# Altium schematic symbol library SMD-Symbols.SchLib: 42 symbols (part 3 of 3)
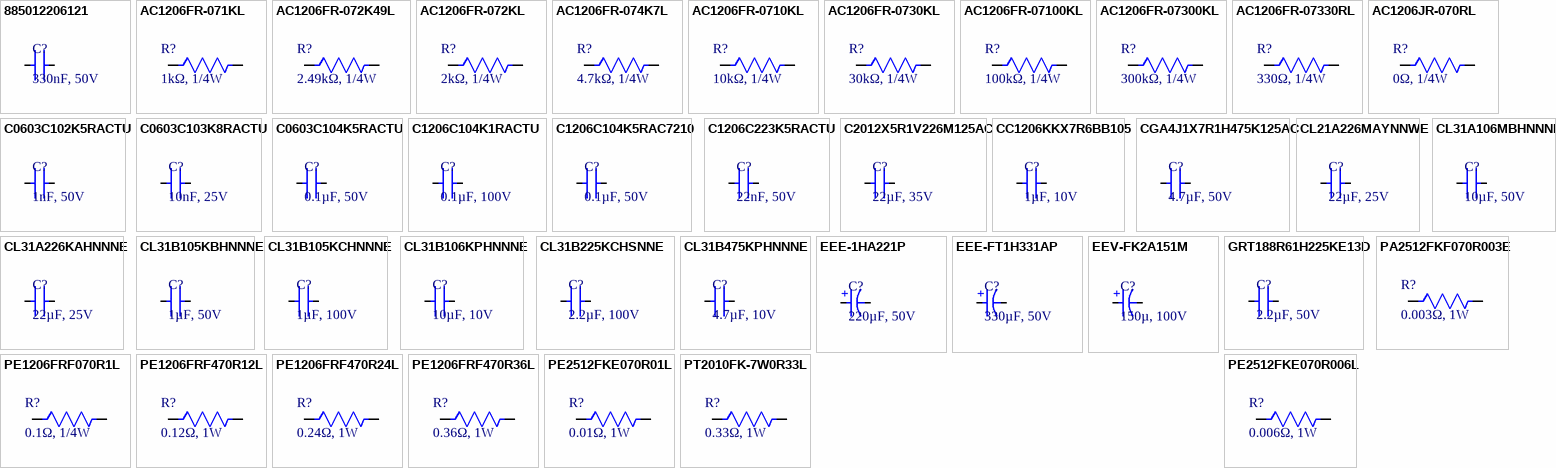
[diagram p3: symbols 885012206121 to PT2010FK-7W0R33L]

## PT2010FK-7W0R33L
designator R?, comment 0.33Ω, 1W
RES 0.33 OHM 1% 1W 2010; Manufacturer: Yageo Group; Manufacturer Part Number: PT2010FK-7W0R33L; Value: 330mΩ; Temperature Coefficient: 75ppm/°C; Working Voltage: 574mV; Supplier: DigiKey; Supplier Part Number: 311-0.33AQCT-ND; RoHS: Compliant; Category: Chip SMD Resistors; Stock: 8987; Pricing: 1=0.64, 10=0.417, 25=0.3544, 50=0.3154, 100=0.2823, 250=0.24588, 500=0.22308, 1000=0.20371 (USD); Case/Package: 2010; China RoHS: Non-Compliant; Height: 550µm; Lead Free: Lead Free; Lifecycle Status: Production; Max Operating Temperature: 155°C; Min Operating Temperature: -55°C; Mounting Technology: Surface Mount; Number of Terminals: 2; Power Dissipation: 1W; REACH SVHC: Yes; Schedule B: 8533210045, 8533210045|8533210045|8533210045|8533210045|8533210045; Tolerance: 1%; Width: 2.5mm; ComponentLink1URL: https://datasheet.octopart.com:443/PT2010FK-7W0R33L-Yageo-datasheet-182189530.pdf?src-supplier=IHS; ComponentLink1Description: https://datasheet.octopart.com:443/PT2010FK-7W0R33L-Yageo-datasheet-182189530.pdf?src-supplier=IHS; ComponentLink2URL: https://datasheet.octopart.com:443/PT2010FK-7W0R33L-Yageo-datasheet-137700561.pdf?src-supplier=Farnell; ComponentLink2Description: https://datasheet.octopart.com:443/PT2010FK-7W0R33L-Yageo-datasheet-137700561.pdf?src-supplier=Farnell; ComponentLink3URL: https://datasheet.octopart.com:443/PT2010FK-7W0R33L-Yageo-Group-datasheet-190382415.pdf?src-supplier=Farnell; ComponentLink3Description: https://datasheet.octopart.com:443/PT2010FK-7W0R33L-Yageo-Group-datasheet-190382415.pdf?src-supplier=Farnell; ComponentLink4URL: https://datasheet.octopart.com:443/PT2010FK-7W0R33L-Yageo-datasheet-128681935.pdf?src-supplier=X-ON; ComponentLink4Description: https://datasheet.octopart.com:443/PT2010FK-7W0R33L-Yageo-datasheet-128681935.pdf?src-supplier=X-ON; ComponentLink5URL: https://datasheet.octopart.com/PT2010FK-7W0R33L-Yageo-datasheet-86814862.pdf; ComponentLink5Description: https://datasheet.octopart.com/PT2010FK-7W0R33L-Yageo-datasheet-86814862.pdf; ComponentLink6URL: https://datasheet.octopart.com:443/PT2010FK-7W0R33L-Yageo-datasheet-14431055.pdf?src-supplier=Factory+Futures; ComponentLink6Description: https://datasheet.octopart.com:443/PT2010FK-7W0R33L-Yageo-datasheet-14431055.pdf?src-supplier=Factory+Futures; ComponentLink7URL: http://sigma.octopart.com:80/conflict_mineral_statement/Yageo-company-3.pdf?src-supplier=Compliance+Statements; ComponentLink7Description: http://sigma.octopart.com:80/conflict_mineral_statement/Yageo-company-3.pdf?src-supplier=Compliance+Statements; ComponentLink8URL: http://sigma.octopart.com:80/rohs_statement/Yageo-company-2.pdf?src-supplier=Compliance+Statements; ComponentLink8Description: http://sigma.octopart.com:80/rohs_statement/Yageo-company-2.pdf?src-supplier=Compliance+Statements
footprint RES-2010
pins: 1, 2

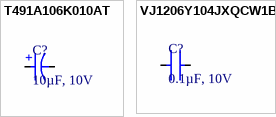
[diagram p1: symbols T491A106K010AT to VJ1206Y104JXQCW1BC]

## T491A106K010AT
designator C?, comment 10µF, 10V
CAP TANT 10UF 10% 10V 1206; Manufacturer: KEMET; Manufacturer Part Number: T491A106K010AT; Dielectric Material: Tantalum; Polarity: Polarized; ESR (Equivalent Series Resistance): 4R; Leakage Current: 1uA; Ripple Current: 54.8mA; Tan Delta: 0.06; Supplier: Digikey; Supplier Part Number: 399-3684-1-ND; RoHS: Yes; Category: Tantalum Capacitors; Stock: 1464158; Pricing: 1=0.32, 10=0.209, 50=0.154, 100=0.1255, 500=0.09904, 1000=0.08364 (USD); Mounting Technology: Surface Mount; Pins: 2; Package Shape: Rectangular; Case/Package: 1206; Terminal Finish: Tin; Min Operating Temperature: -55°C; Max Operating Temperature: 125°C; JESD-609 Code: e3; Value: 10uF; Capacitor Type: Tantalum; Tolerance  (fill in as +-): 10%; Package Style: SMTMeter; Packaging: Tape and Reel; Tolerance (fill in as +-): 10%; Rated DC Voltage (URdc): 10V; Termination: J BEND; Length: 3.2mm; Width: 1.6mm; Height: 1.6mm; Reach SVHC Compliant: Yes; RoHS Compliant: Yes; ComponentLink1URL: https://datasheet.ciiva.com:443/pdfs/VipMasterIC/IC/KEME/KEME-S-A0009782355/KEME-S-A0009782355-1.pdf?src-supplier=IHS+Markit; ComponentLink1Description: https://datasheet.ciiva.com:443/pdfs/VipMasterIC/IC/KEME/KEME-S-A0009782355/KEME-S-A0009782355-1.pdf?src-supplier=IHS+Markit; ComponentLink2URL: https://datasheet.ciiva.com/27052/1573249-27052559.pdf?src-supplier=Jameco; ComponentLink2Description: https://datasheet.ciiva.com/27052/1573249-27052559.pdf?src-supplier=Jameco; ComponentLink3URL: https://datasheet.ciiva.com/257/kem-t2005-t491-257584.pdf?src-supplier=Digikey; ComponentLink3Description: https://datasheet.ciiva.com/257/kem-t2005-t491-257584.pdf?src-supplier=Digikey; ComponentLink4URL: https://datasheet.ciiva.com/257/kem-t2005-t491-257585.pdf?src-supplier=Digikey; ComponentLink4Description: https://datasheet.ciiva.com/257/kem-t2005-t491-257585.pdf?src-supplier=Digikey; ComponentLink5URL: https://datasheet.ciiva.com/257/kem-t2005-t491-257586.pdf?src-supplier=Digikey; ComponentLink5Description: https://datasheet.ciiva.com/257/kem-t2005-t491-257586.pdf?src-supplier=Digikey; ComponentLink6URL: https://datasheet.ciiva.com/14586/70095774-14586699.pdf?src-supplier=Allied+Electronics; ComponentLink6Description: https://datasheet.ciiva.com/14586/70095774-14586699.pdf?src-supplier=Allied+Electronics; ComponentLink7URL: https://datasheet.ciiva.com/29244/458293-da-01-en-kondensator-10uf-3216-10pr-10v-85c-29244583.pdf?src-supplier=Conrad; ComponentLink7Description: https://datasheet.ciiva.com/29244/458293-da-01-en-kondensator-10uf-3216-10pr-10v-85c-29244583.pdf?src-supplier=Conrad
footprint CAP-TAN-1206
pins: 1, 2
text: +

## VJ1206Y104JXQCW1BC
designator C?, comment 0.1µF, 10V
CAP CER 0.1UF 10V X7R 1206; Manufacturer: Vishay Vitramon; Manufacturer Part Number: VJ1206Y104JXQCW1BC; Manufacturer Series: VJ; Dielectric Material: Ceramic; Value: 100nF; Multilayer: Yes; Tolerance  (fill in as +-): 5%; Supplier: Digikey; Supplier Part Number: 720-VJ1206Y104JXQCW1BCCT-ND; RoHS: Yes; Category: Ceramic Capacitors; Stock: 2598; Pricing: 1=0.29, 10=0.188, 50=0.1386, 100=0.1129, 500=0.08914, 1000=0.07527 (USD); Mounting Technology: Surface Mount; Pins: 2; Package Shape: Rectangular; Case/Package: 1206; Terminal Finish: Tin; Min Operating Temperature: -55°C; Max Operating Temperature: 125°C; JESD-609 Code: e3; Capacitor Type: Ceramic; Packaging: Tape and Reel; Tolerance (fill in as +-): 5%; Rated DC Voltage (URdc): 10V; Temperature Characteristics Code: X7R; Termination: Wraparound; Reach SVHC Compliant: Yes; RoHS Compliant: Yes; ComponentLink1URL: https://datasheet.ciiva.com:443/pdfs/VipMasterIC/IC/BEYS/BEYSS01735/BEYSS01735-1.pdf?src-supplier=IHS+Markit; ComponentLink1Description: https://datasheet.ciiva.com:443/pdfs/VipMasterIC/IC/BEYS/BEYSS01735/BEYSS01735-1.pdf?src-supplier=IHS+Markit; ComponentLink2URL: https://datasheet.ciiva.com/11492/vjw1bcbascomseries-11492041.pdf?src-supplier=Avnet; ComponentLink2Description: https://datasheet.ciiva.com/11492/vjw1bcbascomseries-11492041.pdf?src-supplier=Avnet
footprint CAP-CER-1206
pins: 1, 2